# EAGLE library part JS202011SCQN (library switch-ck)
DPDT SLIDE SWITCH
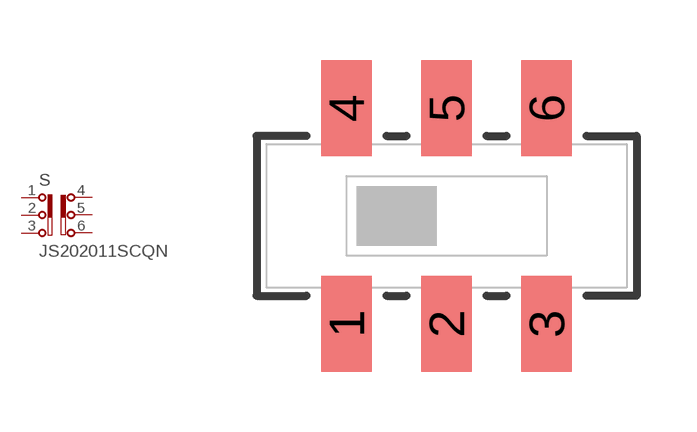
[diagram p0: symbol with the pads of JS202011SCQN; footprint JS202011SCQN]

Designator prefix S

## JS202011SCQN  [JS202011SCQN]
1  1  pas
2  2  pas
3  3  pas
4  4  pas
5  5  pas
6  6  pas

## Footprint JS202011SCQN (pad centres in mm)
DPDT SLIDE SWITCH
smd 1.27 x 2.4: 1 -2.5,-2.7; 2 0,-2.7; 3 2.5,-2.7; 4 -2.5,2.7; 5 0,2.7; 6 2.5,2.7